# Altium footprint library Molex44432-1401.PcbLib: 1 footprints
Each footprint in its own frame and in the unit in brackets; x right, y up, seen from the top. Pads: shape width x height; smd on the part's side, far side on the other; paste and mask are expansions set on the pad; w line width, h text height; cw(c..) or ccw(c..) is an arc to the next point about the centre after c.
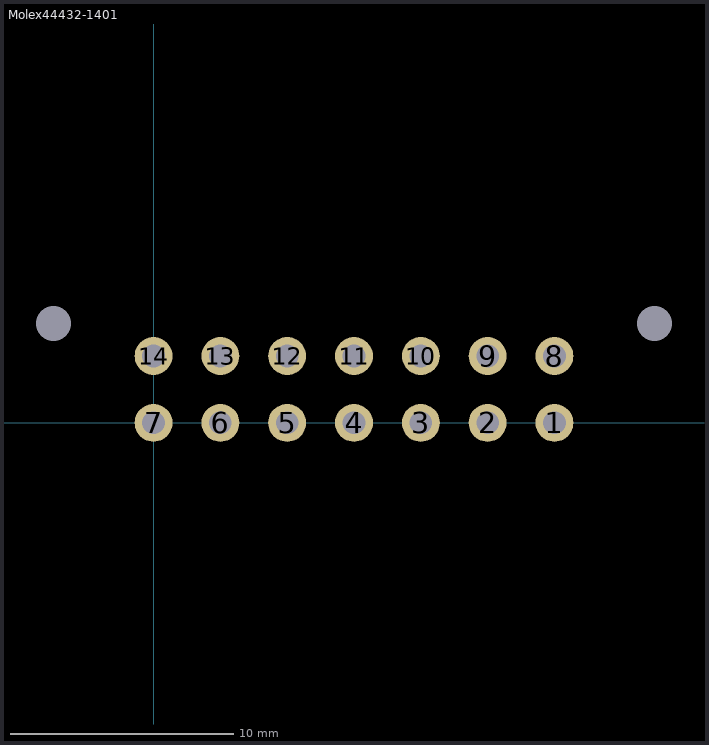
[diagram p0: the footprint, top view; thin cyan lines are the x and y axes]

## Molex44432-1401 [mm] "Molex44432-1401"
pads (16):
  round 1.7 hole 1.02: 1(18,0) 2(15,0) 3(12,0) 4(9,0) 5(6,0) 6(3,0) 7(0,0) 8(18,3) 9(15,3) 10(12,3) 11(9,3) 12(6,3) 13(3,3) 14(0,3)
  round 1 hole 1.57 unplated: ""(-4.5,4.45) ""(22.5,4.45)
3D body "444321401.stp": height 11.8, standoff -3.06, extent -5,-4.4 23,7.5